# Altium schematic symbol library SCH - MCU - SI LABS - SI LABS EFM32ZG108F16 24-PIN QFN 5X5.SchLib: 1 symbol
Pins are listed as number, name and electrical type; pins without a type are passive.

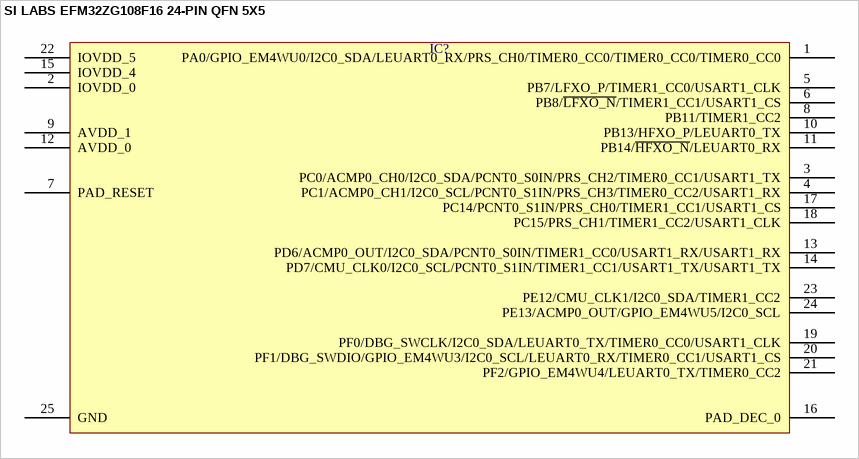
[diagram p0: symbol SI LABS EFM32ZG108F16 24-PIN QFN 5X5]

## SI LABS EFM32ZG108F16 24-PIN QFN 5X5
designator IC?  (value not drawn)
pins: 1 PA0/GPIO_EM4WU0/I2C0_SDA/LEUART0_RX/PRS_CH0/TIMER0_CC0/TIMER0_CC0/TIMER0_CC0, 2 IOVDD_0, 3 PC0/ACMP0_CH0/I2C0_SDA/PCNT0_S0IN/PRS_CH2/TIMER0_CC1/USART1_TX, 4 PC1/ACMP0_CH1/I2C0_SCL/PCNT0_S1IN/PRS_CH3/TIMER0_CC2/USART1_RX, 5 PB7/LFXO_P/TIMER1_CC0/USART1_CLK, 6 PB8/~{LFXO_N}/TIMER1_CC1/USART1_CS, 7 PAD_RESET, 8 PB11/TIMER1_CC2, 9 AVDD_1, 10 PB13/HFXO_P/LEUART0_TX, 11 PB14/~{HFXO_N}/LEUART0_RX, 12 AVDD_0, 13 PD6/ACMP0_OUT/I2C0_SDA/PCNT0_S0IN/TIMER1_CC0/USART1_RX/USART1_RX, 14 PD7/CMU_CLK0/I2C0_SCL/PCNT0_S1IN/TIMER1_CC1/USART1_TX/USART1_TX, 15 IOVDD_4, 16 PAD_DEC_0, 17 PC14/PCNT0_S1IN/PRS_CH0/TIMER1_CC1/USART1_CS, 18 PC15/PRS_CH1/TIMER1_CC2/USART1_CLK, 19 PF0/DBG_SWCLK/I2C0_SDA/LEUART0_TX/TIMER0_CC0/USART1_CLK, 20 PF1/DBG_SWDIO/GPIO_EM4WU3/I2C0_SCL/LEUART0_RX/TIMER0_CC1/USART1_CS, 21 PF2/GPIO_EM4WU4/LEUART0_TX/TIMER0_CC2, 22 IOVDD_5, 23 PE12/CMU_CLK1/I2C0_SDA/TIMER1_CC2, 24 PE13/ACMP0_OUT/GPIO_EM4WU5/I2C0_SCL, 25 GND